# Altium footprint library Wurth-RJ45-7499111221A.PcbLib: 1 footprints
Each footprint in its own frame and in the unit in brackets; x right, y up, seen from the top. Pads: shape width x height; smd on the part's side, far side on the other; paste and mask are expansions set on the pad; w line width, h text height; cw(c..) or ccw(c..) is an arc to the next point about the centre after c.
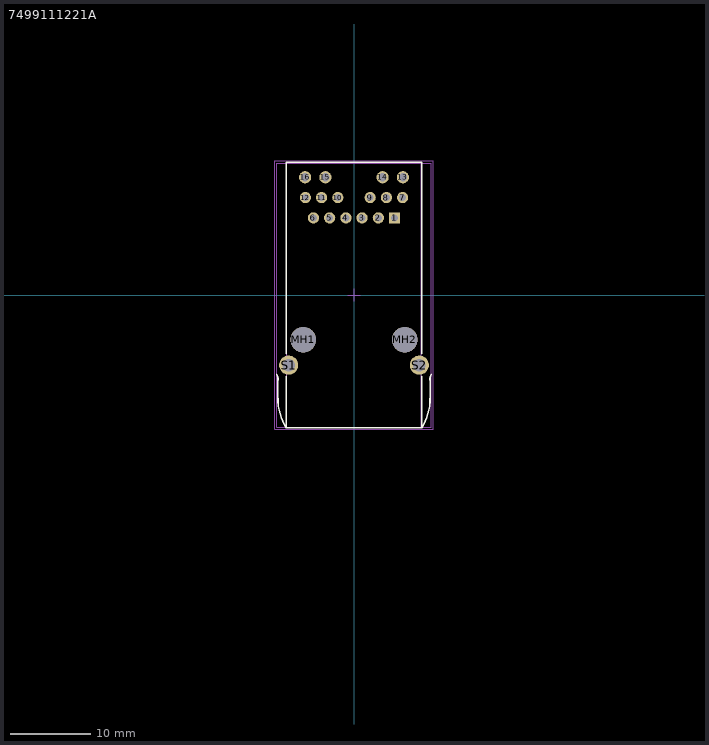
[diagram p0: the footprint, top view; thin cyan lines are the x and y axes]

## 7499111221A [mm] "LAN Transformer, body 33.02x16.79mm"
height 15.79
pads (20):
  rect 1.4x1.4 hole 0.89: 1(5.075,9.66)
  round 1.4 hole 0.89: 2(3.045,9.66) 3(1.015,9.66) 4(-1.015,9.66) 5(-3.045,9.66) 6(-5.075,9.66) 7(6.085,12.2) 8(4.055,12.2) 9(2.025,12.2) 10(-2.025,12.2) 11(-4.055,12.2) 12(-6.085,12.2)
  round 1.53 hole 1.03: 13(6.12,14.74) 14(3.58,14.74) 15(-3.58,14.74) 16(-6.12,14.74)
  round 3.2 hole 3.2 unplated: MH1(-6.35,-5.58) MH2(6.35,-5.58)
  round 2.4 hole 1.57: S1(-8.175,-8.76) S2(8.175,-8.76)
Top Overlay:
  lines w0.2: -9.664,-9.913 cw(c-10.775,-10.525) -9.508,-10.582 ccw(c-5.893,-11.022) -9.535,-11.052 ccw(c15.129,-11.88) -9.464,-13.924 ccw(c-1.045,-12.405) -8.495,-16.61 ; -8.495,-10.17 -8.495,-16.61 ; -8.495,-7.35 -8.495,16.61 8.495,16.61 8.495,-7.35 ; 8.495,-10.17 8.495,-16.61 ; 9.664,-9.913 ccw(c10.775,-10.525) 9.508,-10.582 cw(c5.893,-11.022) 9.535,-11.052 cw(c-15.129,-11.88) 9.464,-13.924 cw(c1.045,-12.405) 8.495,-16.61 ; -8.495,-16.61 8.495,-16.61
Mechanical 11:
  lines w0.1: -8.395,-16.51 8.395,-16.51 8.395,16.51 -8.395,16.51 -8.395,-16.51
  text ".Designator" at 0,0 h1
Mechanical 13:
  lines w0.1: -9.685,-16.51 -9.685,16.51 9.685,16.51 9.685,-16.51 -9.685,-16.51
Mechanical 15:
  lines w0.1: -0.8,0 0.8,0 ; 0,-0.8 0,0.8 ; -9.9,-16.81 9.9,-16.81 9.9,16.81 -9.9,16.81 -9.9,-16.81
3D body "7499111221A.stp": height 16.02, standoff -3.49, extent -9.685,-16.51 9.685,16.51